# EAGLE library part LTC3407 (library dviid)
The LTC® 3407 is a dual, constant frequency, synchronous step down DC/DC converter.
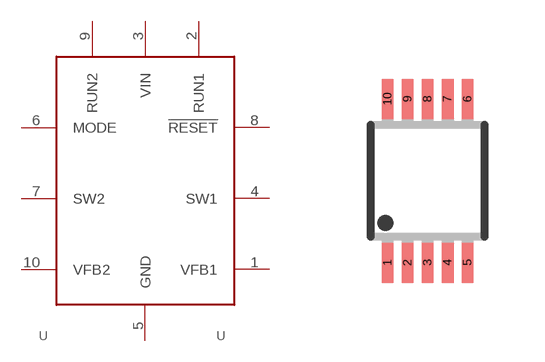
[diagram p20: symbol with the pads of MSOP10; footprint MSOP10]

Designator prefix -

## LTC3407  [MSOP10]
1  VFB1
2  RUN1
3  VIN  pwr
4  SW1
5  GND  pwr
6  MODE
7  SW2
8  !RESET
9  RUN2
10  VFB2

## Footprint MSOP10 (pad centres in mm)
10 Lead Platic MSOP Source: http://www.linear.com .. LT1996
smd 0.3 x 1: 1 -1,-2.05; 2 -0.5,-2.05; 3 0,-2.05; 4 0.5,-2.05; 5 1,-2.05; 6 1,2.05; 7 0.5,2.05; 8 0,2.05; 9 -0.5,2.05; 10 -1,2.05